# Altium footprint library HDRV12W52P200_2X6_1230X400X1850P.PcbLib: 1 footprints
Each footprint in its own frame and in the unit in brackets; x right, y up, seen from the top. Pads: shape width x height; smd on the part's side, far side on the other; paste and mask are expansions set on the pad; w line width, h text height; cw(c..) or ccw(c..) is an arc to the next point about the centre after c.
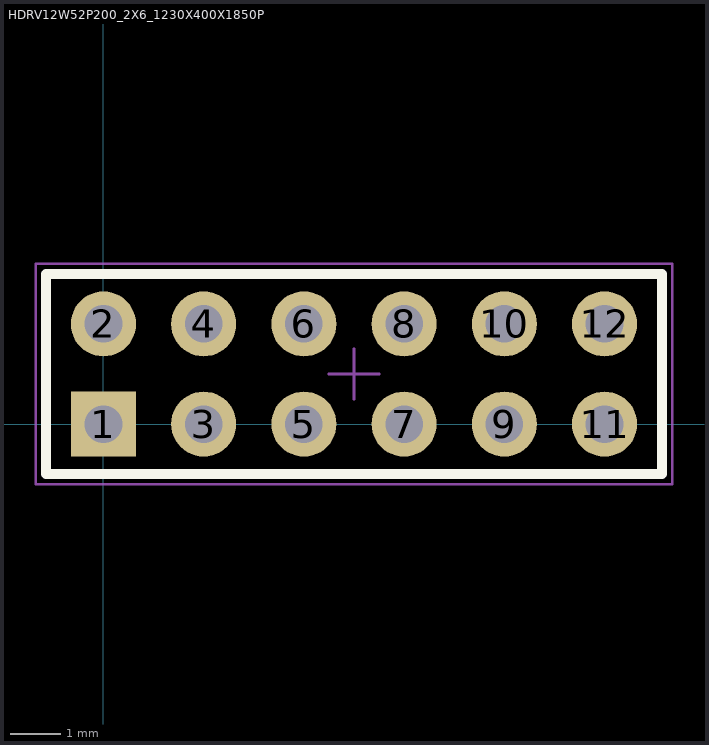
[diagram p0: the footprint, top view; thin cyan lines are the x and y axes]

## HDRV12W52P200_2X6_1230X400X1850P [mm]
pads (12):
  rect 1.3x1.3 hole 0.75: 1(0,0)
  round 1.3 hole 0.75: 2(0,2) 3(2,0) 4(2,2) 5(4,0) 6(4,2) 7(6,0) 8(6,2) 9(8,0) 10(8,2) 11(10,0) 12(10,2)
Top Overlay:
  lines w0.2: -1.15,-1 -1.15,3 11.15,3 11.15,-1 -1.15,-1
Mechanical 13:
  lines w0.1: -1.15,-1 11.15,-1 11.15,3 -1.15,3 -1.15,-1
Mechanical 15:
  lines w0.05: 4.5,1 5.5,1 ; 5,0.5 5,1.5 ; -1.35,-1.2 -1.35,3.2 11.35,3.2 11.35,-1.2 -1.35,-1.2